# EAGLE library part IC_SOIC_14 (library solderlessPCB v164)
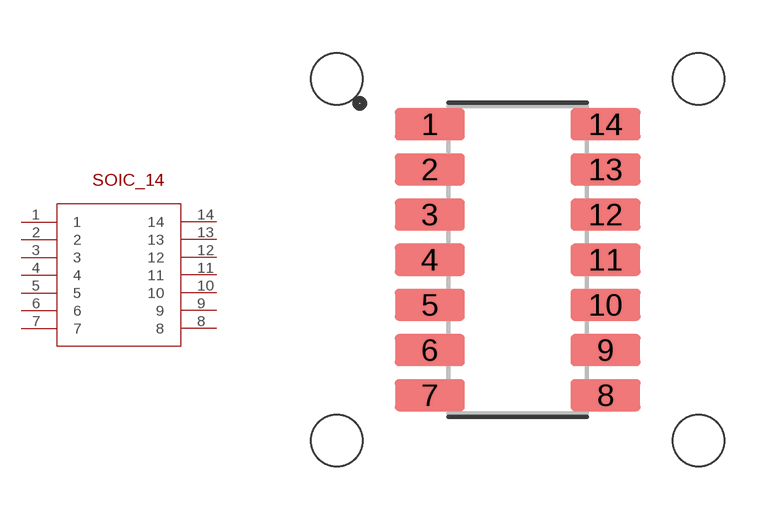
[diagram p5: symbol with the pads of SOIC_14; footprint SOIC_14]

Designator prefix -

## IC_SOIC_14  [SOIC_14]
1  1
2  2
3  3
4  4
5  5
6  6
7  7
8  8
9  9
10  10
11  11
12  12
13  13
14  14

## Footprint SOIC_14 (pad centres in mm)
smd 1.97 x 0.9: 1 -2.47,3.81; 2 -2.47,2.54; 3 -2.47,1.27; 4 -2.47,0; 5 -2.47,-1.27; 6 -2.47,-2.54; 7 -2.47,-3.81; 8 2.47,-3.81; 9 2.47,-2.54; 10 2.47,-1.27; 11 2.47,0; 12 2.47,1.27; 13 2.47,2.54; 14 2.47,3.81
hole 1.45 at 5.08,5.08
hole 1.45 at -5.08,5.08
hole 1.45 at -5.08,-5.08
hole 1.45 at 5.08,-5.08